# Altium schematic symbol library power_supplies_ac_dc.SchLib: 1 symbol
Pins are listed as number, name and electrical type; pins without a type are passive.

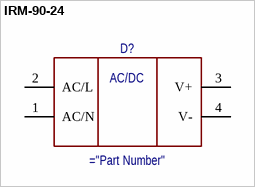
[diagram p0: symbol IRM-90-24]

## IRM-90-24
designator D?
AC/DC, 90W, 80-305 VAC, 24V output
pins: 1 AC/N, 2 AC/L, 3 V+, 4 V-
text: AC/DC